# EAGLE library part LTR-303ALS-01 (library eigenebib)
SENSOR OPT AMBIENT 6DFN, Digikey: 160-2161-1-ND
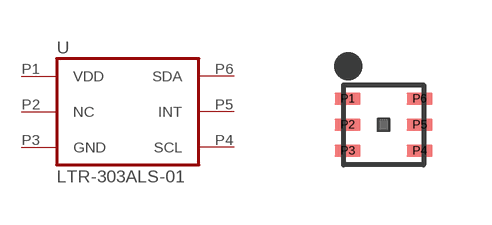
[diagram p3: symbol with the pads of 6-DFN; footprint 6-DFN]

Designator prefix -

## LTR-303ALS-01  [6-DFN]
P1  VDD  pwr
P2  NC  nc
P3  GND  pwr
P4  SCL
P5  INT  out
P6  SDA

## Footprint 6-DFN (pad centres in mm)
smd 0.65 x 0.3: P1 -0.9,0.65; P2 -0.9,0; P3 -0.9,-0.65; P4 0.9,-0.65; P5 0.9,0; P6 0.9,0.65